# Altium schematic symbol library Additional.SchLib: 12 symbols
Pins are listed as number, name and electrical type; pins without a type are passive.

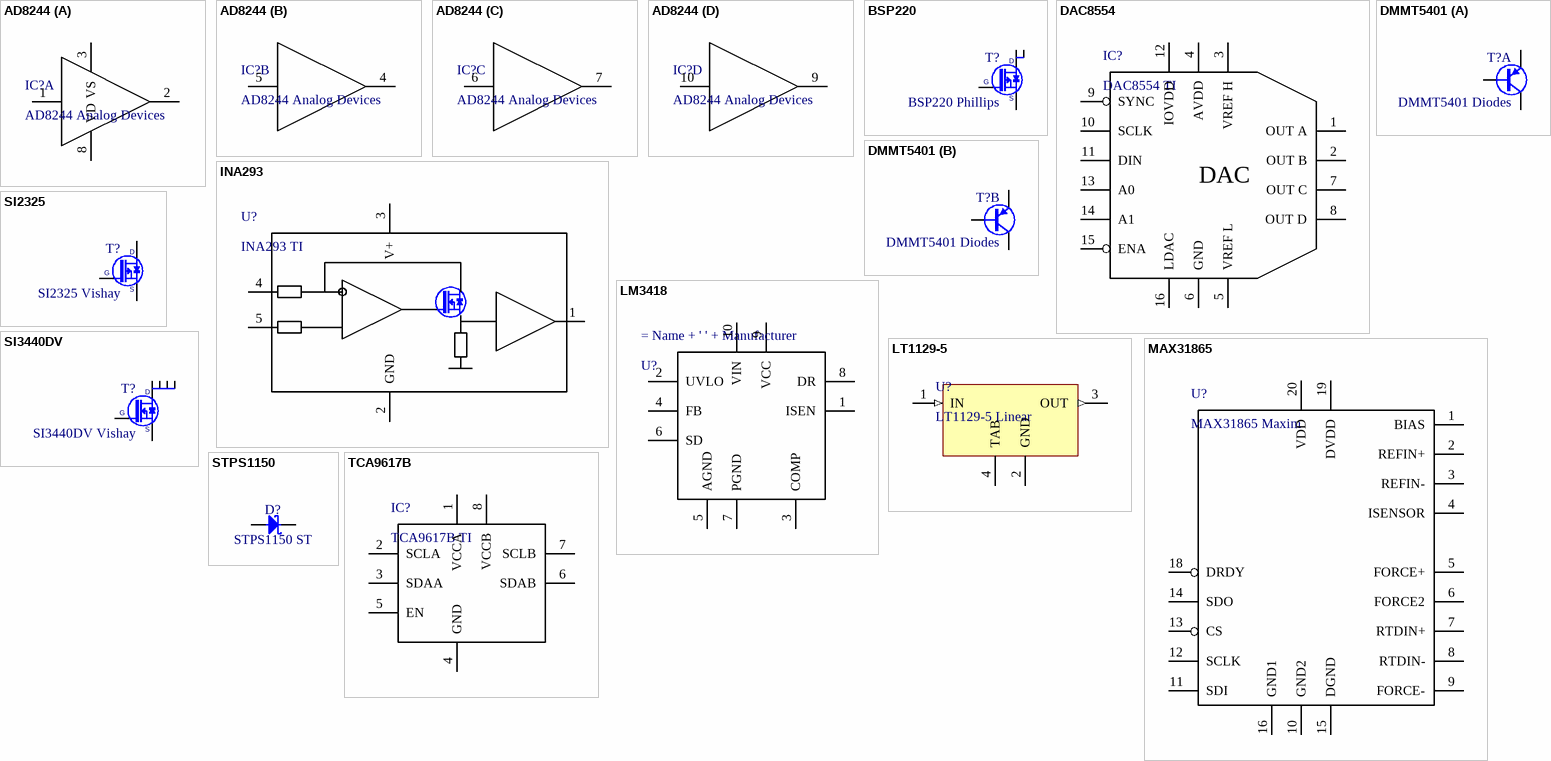
[diagram p0: symbols AD8244 to TCA9617B]

## AD8244
designator IC?, comment AD8244 Analog Devices
Name: AD8244; Manufacturer: Analog Devices
footprint TSSOP50P490X110-10N (TSSOP, 10-Leads, Body 3,00x3,00mm, Pitch 0,50mm, IPC Medium Density)
part A pins: 1 IN A, 2 OUT A, 3 VS, 8 VD
part B pins: 4 OUT B, 5 IN B
part C pins: 6 IN C, 7 OUT C
part D pins: 9 OUT D, 10 IN D

## BSP220
designator T?, comment BSP220 Phillips
P-Channel MOSFET; Name: BSP220; Manufacturer: Phillips
footprint SOT230P700X175-4N (SOT223, 2.30mm pitch; 4 pin, 3.70mm W X 6.70mm L, IPC Medium Density)
pins: 1 G, 2 D, 3 S, 4 D

## DAC8554
designator IC?, comment DAC8554 TI
Name: DAC8554; Manufacturer: TI
footprint TSOP65P640X120-16N (TSOP, 16-Leads, Body 5,00x4,40mm, Pitch 0,65mm, IPC Medium Density)
pins: 1 OUT A, 2 OUT B, 3 VREF H, 4 AVDD, 5 VREF L, 6 GND, 7 OUT C, 8 OUT D, 9 SYNC, 10 SCLK, 11 DIN, 12 IOVDD, 13 A0, 14 A1, 15 ENA, 16 LDAC
text: DAC

## DMMT5401
designator T?, comment DMMT5401 Diodes
Name: DMMT5401; Manufacturer: Diodes
footprint SOT95P280X145-6N (SOT23, 6-Leads, Body 1.6x3.0mm, Pitch 0.95mm, IPC Medium Density)
part A pins: 1 C, 2 B, 6 E
part B pins: 3 B, 4 C, 5 E

## INA293
designator U?, comment INA293 TI
Name: INA293; Manufacturer: TI
footprint SOT95P280X110-5N (SOT23, 0.95mm pitch; 5 pin, 1.6mm W X 2.9mm L, IPC Medium Density)
pins: 1 OUT, 2 GND, 3 V+, 4 VIN-, 5 VIN+

## LM3418
designator = Name + ' ' + Manufacturer, comment U?
Manufacutrer: TI; Name: LM3418
footprint SOP50P490X110-10N (MSOP, 10-Leads, Body 3.1x3.1mm (max), Pitch 0.50mm, IPC Medium Density)
pins: 1 ISEN, 2 UVLO, 3 COMP, 4 FB, 5 AGND, 6 SD, 7 PGND, 8 DR, 9 VCC, 10 VIN

## LT1129-5
designator U?, comment LT1129-5 Linear
Name: LT1129-5; Manufacturer: Linear
footprint SOT230P700X175-4N (SOT223, 2.30mm pitch; 4 pin, 3.70mm W X 6.70mm L, IPC Medium Density)
pins: 1 IN (in), 2 GND (power), 3 OUT (out), 4 TAB (power)

## MAX31865
designator U?, comment MAX31865 Maxim
Name: MAX31865; Manufacturer: Maxim
pins: 1 BIAS, 2 REFIN+, 3 REFIN-, 4 ISENSOR, 5 FORCE+, 6 FORCE2, 7 RTDIN+, 8 RTDIN-, 9 FORCE-, 10 GND2, 11 SDI, 12 SCLK, 13 CS, 14 SDO, 15 DGND, 16 GND1, 17 hidden, 18 DRDY, 19 DVDD, 20 VDD

## SI2325
designator T?, comment SI2325 Vishay
P-Channel MOSFET; Name: SI2325; Manufacturer: Vishay
footprint SOT95P230X112-3N (SOT23 3-Leads, Pitch 0.95mm - Body 1.3x2.86mm, IPC Medium Density)
pins: 1 G, 3 S, 4 D

## SI3440DV
designator T?, comment SI3440DV Vishay
N-Channel MOSFET; Name: SI3440DV; Manufacturer: Vishay
footprint SOT95P280X110-6N (SOT, 0.95mm Pitch; 6 Pin, 1.60mm W X 2.90mm L X 1.10mm H Body, IPC Medium Density)
pins: 1 D, 2 D, 3 G, 4 S, 5 D, 6 D

## STPS1150
designator D?, comment STPS1150 ST
Diode Schottky  Anode Pin 1 Cathode Pin 3 (Pas de pin 2); Name: STPS1150; Manufacturer: ST
footprint DIOM5027X244N (DO-214-AC/SMA  Molded Diode, Body 5.0x2.7mm, IPC Medium Density)
pins: 1 C, 2 A

## TCA9617B
designator IC?, comment TCA9617B TI
Name: TCA9617B; Manufacturer: TI
footprint TSOP65P490X110-8N (TSOP, 8-Leads, Body 3,00x3,00mm, Pitch 0,65mm, IPC Medium Density)
pins: 1 VCCA, 2 SCLA, 3 SDAA, 4 GND, 5 EN, 6 SDAB, 7 SCLB, 8 VCCB